# Altium footprint library switch.PcbLib: 1 footprints
Each footprint in its own frame and in the unit in brackets; x right, y up, seen from the top. Pads: shape width x height; smd on the part's side, far side on the other; paste and mask are expansions set on the pad; w line width, h text height; cw(c..) or ccw(c..) is an arc to the next point about the centre after c.
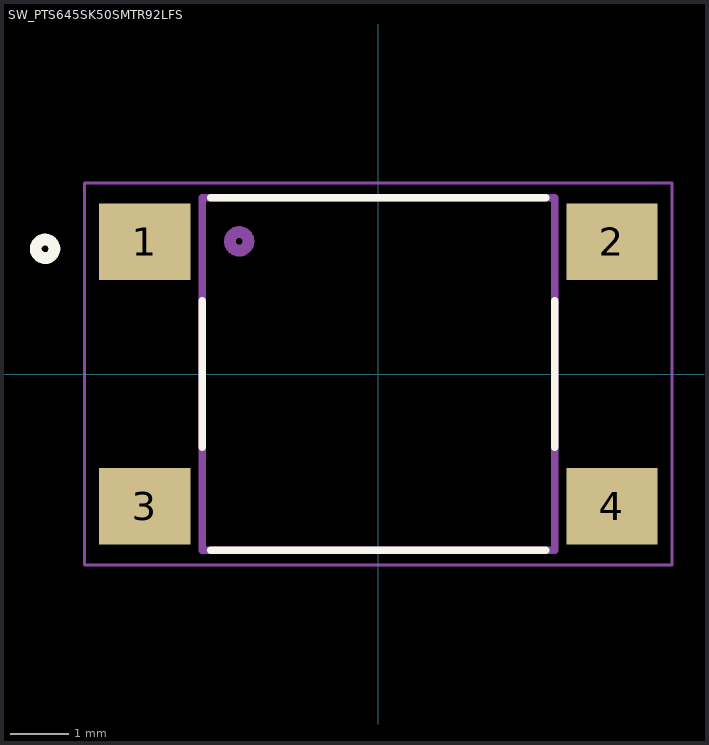
[diagram p0: the footprint, top view; thin cyan lines are the x and y axes]

## SW_PTS645SK50SMTR92LFS [mm]
pads (4):
  rect 1.55x1.3 smd: 1(-3.975,2.25) 2(3.975,2.25) 3(-3.975,-2.25) 4(3.975,-2.25)
Top Overlay:
  circle w0.2: c-5.67,2.13 r0.158
  lines w0.127: -3,-1.25 -3,1.25 ; -2.85,-3 2.85,-3 ; -2.85,3 2.85,3 ; 3,-1.25 3,1.25
Mechanical 13:
  circle w0.2: c-2.368,2.257 r0.158
  lines w0.127: -3,-3 -3,3 3,3 3,-3 -3,-3
Mechanical 15:
  lines w0.05: -5,-3.25 -5,3.25 5,3.25 5,-3.25 -5,-3.25